# Altium schematic symbol library BZX5-S.SchLib: 2 symbols
Pins are listed as number, name and electrical type; pins without a type are passive.

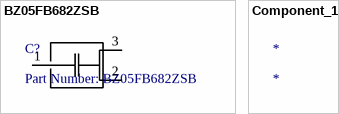
[diagram p0: symbols BZ05FB682ZSB to Component_1]

## BZ05FB682ZSB
designator C?, comment Part Number: BZ05FB682ZSB
6.8mF (EDLC) Supercapacitor 15V BZ05, 3 Lead 500mOhm 1000 Hrs @ 70°C; Vendor: AVX Corporation; Built_By: EMA_UL_Team; Type: DEV; Manufacturer_Part_Number: BZ05FB682ZSB; Copyright: Copyright (C) 2018 Accelerated Designs. All rights reserved; RefDes: RefDes; Value: Value
footprint BZX5-S
pins: 1, 2, 3

## Component_1
designator *